# Altium footprint library WR-PHD_Pin Header.PcbLib: 232 footprints (part 10 of 15)
Each footprint in its own frame and in the unit in brackets; x right, y up, seen from the top. Pads: shape width x height; smd on the part's side, far side on the other; paste and mask are expansions set on the pad; w line width, h text height; cw(c..) or ccw(c..) is an arc to the next point about the centre after c.
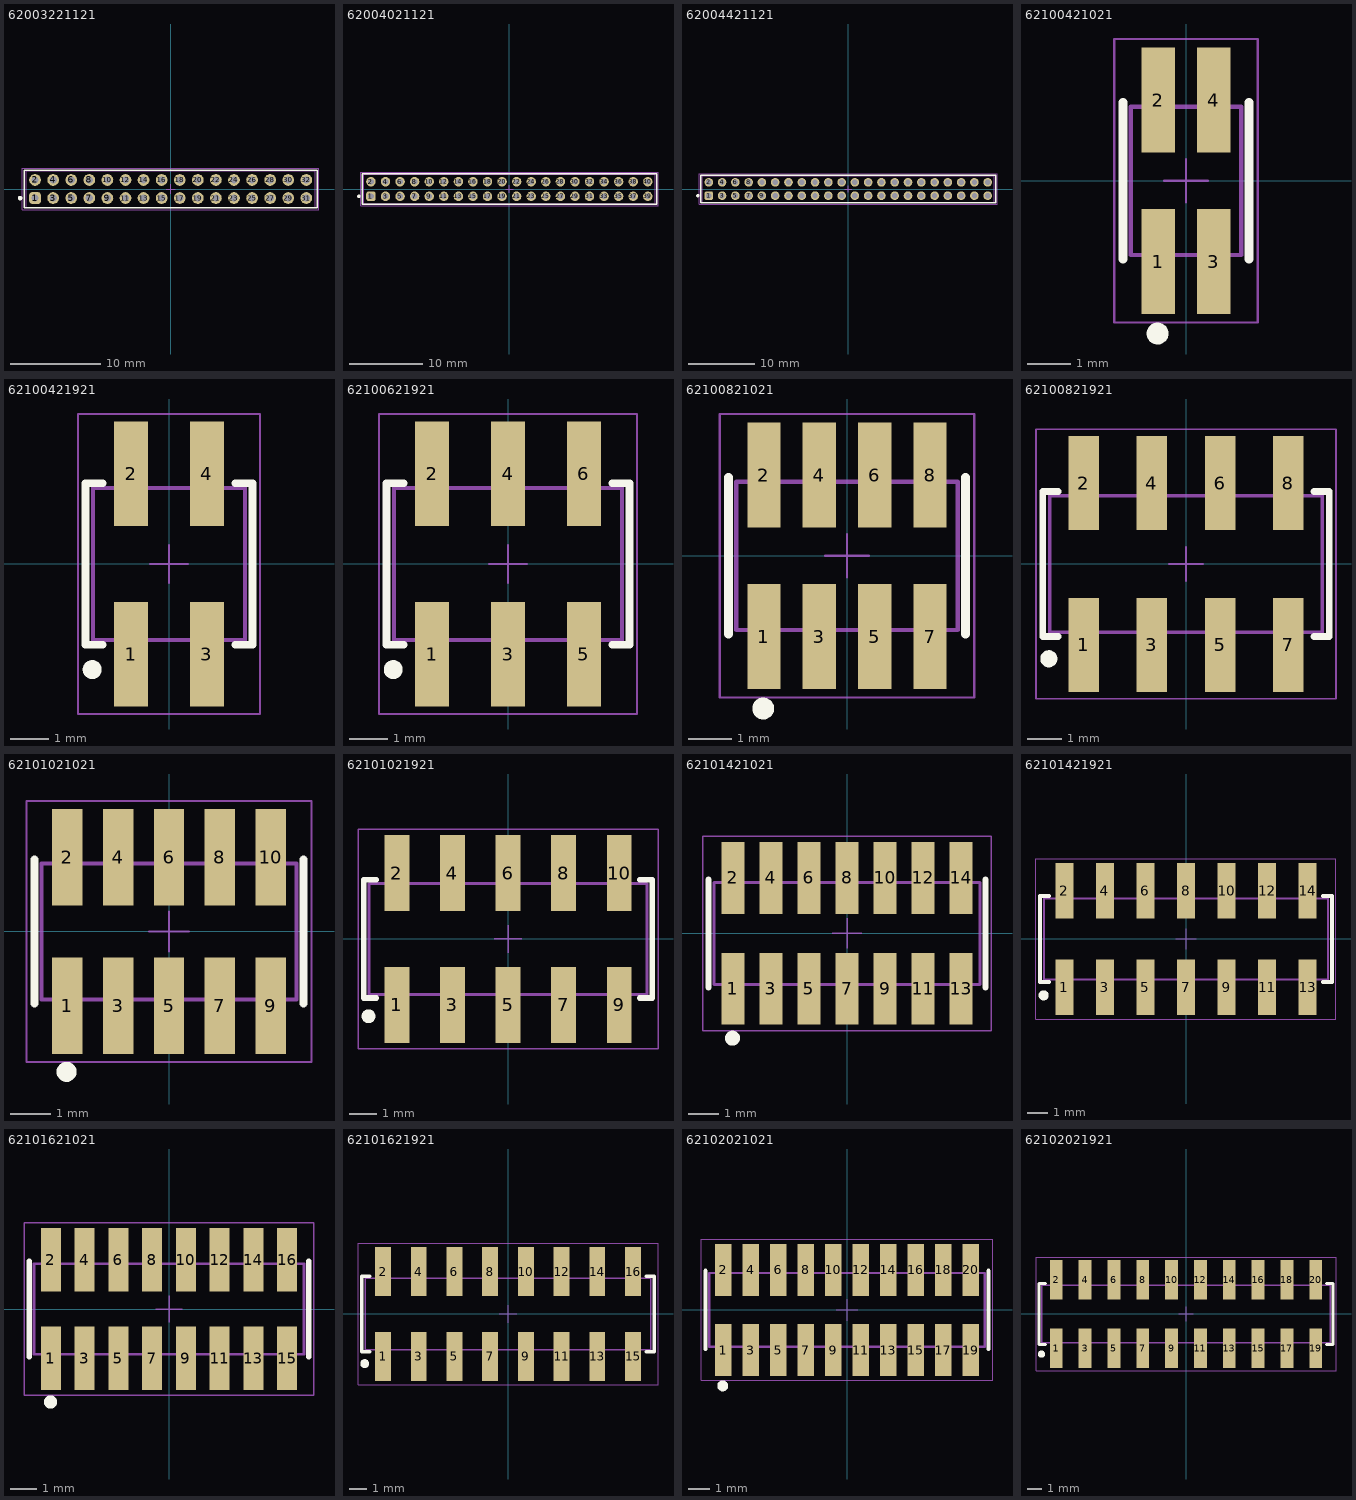
[diagram p9: the footprints below, top view; thin cyan lines are the x and y axes]

## 62003221121 [mm] "2.00 mm THT Dual Pin Header, 32p"
height 6
pads (32):
  rrect50% 1.3x1.3 hole 0.8: 1(-15,-1)
  round 1.3 hole 0.8: 2(-15,1) 3(-13,-1) 4(-13,1) 5(-11,-1) 6(-11,1) 7(-9,-1) 8(-9,1) 9(-7,-1) 10(-7,1) 11(-5,-1) 12(-5,1) 13(-3,-1) 14(-3,1) 15(-1,-1) 16(-1,1) 17(1,-1) 18(1,1) 19(3,-1) 20(3,1) 21(5,-1) 22(5,1) 23(7,-1) 24(7,1) 25(9,-1) 26(9,1) 27(11,-1) 28(11,1) 29(13,-1) 30(13,1) 31(15,-1) 32(15,1)
Top Overlay:
  circle w0.25: c-16.65,-1 r0.125
  lines w0.2: -16.2,-2.075 -16.2,2.075 16.2,2.075 16.2,-2.075 -16.2,-2.075
Top Designator:
  text ".Designator" at -7.498,-0.5 h1.5
Top Component Outline:
  lines w0.1: -16,-2 -16,2 16,2 16,-2 -16,-2
Top Courtyard:
  lines w0.05: -16.4,-2.275 16.4,-2.275 16.4,2.275 -16.4,2.275 -16.4,-2.275
Top Component Center:
  lines w0.05: -0.5,0 0.5,0 ; 0,-0.5 0,0.5
3D body "62003221121.stp": height 6.05, standoff -2.65, extent -16,-2 16,2

## 62004021121 [mm] "2.00 mm THT Dual Pin Header, 40p"
height 6
pads (40):
  rrect50% 1.3x1.3 hole 0.8: 1(-19,-1)
  round 1.3 hole 0.8: 2(-19,1) 3(-17,-1) 4(-17,1) 5(-15,-1) 6(-15,1) 7(-13,-1) 8(-13,1) 9(-11,-1) 10(-11,1) 11(-9,-1) 12(-9,1) 13(-7,-1) 14(-7,1) 15(-5,-1) 16(-5,1) 17(-3,-1) 18(-3,1) 19(-1,-1) 20(-1,1) 21(1,-1) 22(1,1) 23(3,-1) 24(3,1) 25(5,-1) 26(5,1) 27(7,-1) 28(7,1) 29(9,-1) 30(9,1) 31(11,-1) 32(11,1) 33(13,-1) 34(13,1) 35(15,-1) 36(15,1) 37(17,-1) 38(17,1) 39(19,-1) 40(19,1)
Top Overlay:
  circle w0.25: c-20.65,-1 r0.125
  lines w0.2: -20.2,-2.075 20.2,-2.075 20.2,2.075 -20.2,2.075 -20.2,-2.075
Top Designator:
  text ".Designator" at -7.498,-0.5 h1.5
Top Component Outline:
  lines w0.1: -20,-2 20,-2 20,2 -20,2 -20,-2
Top Courtyard:
  lines w0.05: -20.4,-2.275 -20.4,2.275 20.4,2.275 20.4,-2.275 -20.4,-2.275
Top Component Center:
  lines w0.05: -0.5,0 0.5,0 ; 0,-0.5 0,0.5
3D body "62004021121.stp": height 6.05, standoff -2.65, extent -20,-2 20,2

## 62004421121 [mm] "2.00 mm THT Dual Pin Header, 44p"
height 6
pads (44):
  rrect50% 1.3x1.3 hole 0.8: 1(-21,-1)
  round 1.3 hole 0.8: 2(-21,1) 3(-19,-1) 4(-19,1) 5(-17,-1) 6(-17,1) 7(-15,-1) 8(-15,1) 9(-13,-1) 10(-13,1) 11(-11,-1) 12(-11,1) 13(-9,-1) 14(-9,1) 15(-7,-1) 16(-7,1) 17(-5,-1) 18(-5,1) 19(-3,-1) 20(-3,1) 21(-1,-1) 22(-1,1) 23(1,-1) 24(1,1) 25(3,-1) 26(3,1) 27(5,-1) 28(5,1) 29(7,-1) 30(7,1) 31(9,-1) 32(9,1) 33(11,-1) 34(11,1) 35(13,-1) 36(13,1) 37(15,-1) 38(15,1) 39(17,-1) 40(17,1) 41(19,-1) 42(19,1) 43(21,-1) 44(21,1)
Top Overlay:
  circle w0.25: c-22.65,-1 r0.125
  lines w0.2: -22.2,-2.075 -22.2,2.075 22.2,2.075 22.2,-2.075 -22.2,-2.075
Top Designator:
  text ".Designator" at -7.498,-0.5 h1.5
Top Component Outline:
  lines w0.1: -22,-2 -22,2 22,2 22,-2 -22,-2
Top Courtyard:
  lines w0.05: -22.4,-2.275 22.4,-2.275 22.4,2.275 -22.4,2.275 -22.4,-2.275
Top Component Center:
  lines w0.05: -0.5,0 0.5,0 ; 0,-0.5 0,0.5
3D body "62004421121.stp": height 6.05, standoff -2.65, extent -22,-2 22,2

## 62100421021 [mm] "Pin Header, pitch 1.27 mm, SMD, Vertical, dual row, 4p"
height 6.55
pads (4):
  rect 0.76x2.4 smd: 1(-0.635,-1.85) 2(-0.635,1.85) 3(0.635,-1.85) 4(0.635,1.85)
Top Overlay:
  circle w0.25: c-0.65,-3.5 r0.125
  lines w0.2: -1.445,-1.8 -1.445,1.8 ; 1.445,-1.8 1.445,1.8
Top Designator:
  text ".Designator" at -3.499,-0.233 h0.7
Top Component Outline:
  lines w0.1: -0.835,-1.7 -0.835,-2.5 -0.435,-2.5 -0.435,-1.7 ; -0.835,1.7 -0.835,2.5 -0.435,2.5 -0.435,1.7 ; 0.435,-1.7 0.435,-2.5 0.835,-2.5 0.835,-1.7 ; 0.435,1.7 0.435,2.5 0.835,2.5 0.835,1.7 ; -1.27,-1.7 1.27,-1.7 1.27,1.7 -1.27,1.7 -1.27,-1.7
Top Courtyard:
  lines w0.05: -1.645,-3.25 1.645,-3.25 1.645,3.25 -1.645,3.25 -1.645,-3.25
Top Component Center:
  lines w0.05: -0.5,0 0.5,0 ; 0,-0.5 0,0.5
3D body "62100421021.stp": height 5.9, standoff 0, extent -1.27,-2.55 1.27,2.55

## 62100421921 [mm] "Pin Header, pitch 2.00 mm, SMD, Vertical, dual row, 4p"
height 6.8
pads (4):
  rect 0.89x2.75 smd: 1(-1,-2.375) 2(-1,2.375) 3(1,-2.375) 4(1,2.375)
Top Overlay:
  circle w0.25: c-2.022,-2.78 r0.125
  lines w0.2: -1.75,-2.125 -2.2,-2.125 -2.2,2.125 -1.75,2.125 ; 1.75,-2.125 2.2,-2.125 2.2,2.125 1.75,2.125
Top Designator:
  text ".Designator" at -7.498,-0.5 h1.5
Top Component Outline:
  lines w0.1: -1.25,-2 -1.25,-3.1 -0.75,-3.1 -0.75,-2 ; -1.25,2 -1.25,3.1 -0.75,3.1 -0.75,2 ; 0.75,-2 0.75,-3.1 1.25,-3.1 1.25,-2 ; 0.75,2 0.75,3.1 1.25,3.1 1.25,2 ; -2,-2 2,-2 2,2 -2,2 -2,-2
Top Courtyard:
  lines w0.05: -2.4,-3.95 -2.4,3.95 2.4,3.95 2.4,-3.95 -2.4,-3.95
Top Component Center:
  lines w0.05: -0.5,0 0.5,0 ; 0,-0.5 0,0.5
3D body "62100421921.stp": height 6.7, standoff 0, extent -2,-3.1 2,3.1

## 62100621921 [mm] "Pin Header, pitch 2.00 mm, SMD, Vertical, dual row, 6p"
height 6.8
pads (6):
  rect 0.89x2.75 smd: 1(-2,-2.375) 2(-2,2.375) 3(0,-2.375) 4(0,2.375) 5(2,-2.375) 6(2,2.375)
Top Overlay:
  circle w0.25: c-3.022,-2.78 r0.125
  lines w0.2: -2.75,-2.125 -3.2,-2.125 -3.2,2.125 -2.75,2.125 ; 2.75,-2.125 3.2,-2.125 3.2,2.125 2.75,2.125
Top Designator:
  text ".Designator" at -7.498,-0.5 h1.5
Top Component Outline:
  lines w0.1: -2.25,-2 -2.25,-3.1 -1.75,-3.1 -1.75,-2 ; -2.25,2 -2.25,3.1 -1.75,3.1 -1.75,2 ; -0.25,-2 -0.25,-3.1 0.25,-3.1 0.25,-2 ; -0.25,2 -0.25,3.1 0.25,3.1 0.25,2 ; 1.75,-2 1.75,-3.1 2.25,-3.1 2.25,-2 ; 1.75,2 1.75,3.1 2.25,3.1 2.25,2 ; -3,-2 -3,2 3,2 3,-2 -3,-2
Top Courtyard:
  lines w0.05: -3.4,-3.95 3.4,-3.95 3.4,3.95 -3.4,3.95 -3.4,-3.95
Top Component Center:
  lines w0.05: -0.5,0 0.5,0 ; 0,-0.5 0,0.5
3D body "62100621921.stp": height 6.7, standoff 0, extent -3,-3.1 3,3.1

## 62100821021 [mm] "Pin Header, pitch 1.27 mm, SMD, Vertical, dual row, 8p"
height 6.55
pads (8):
  rect 0.76x2.4 smd: 1(-1.905,-1.85) 2(-1.905,1.85) 3(-0.635,-1.85) 4(-0.635,1.85) 5(0.635,-1.85) 6(0.635,1.85) 7(1.905,-1.85) 8(1.905,1.85)
Top Overlay:
  circle w0.25: c-1.92,-3.5 r0.125
  lines w0.2: -2.715,-1.8 -2.715,1.8 ; 2.715,-1.8 2.715,1.8
Top Designator:
  text ".Designator" at -3.499,-0.233 h0.7
Top Component Outline:
  lines w0.1: -2.105,-1.7 -2.105,-2.5 -1.705,-2.5 -1.705,-1.7 ; -2.105,1.7 -2.105,2.5 -1.705,2.5 -1.705,1.7 ; -0.835,-1.7 -0.835,-2.5 -0.435,-2.5 -0.435,-1.7 ; -0.835,1.7 -0.835,2.5 -0.435,2.5 -0.435,1.7 ; 0.435,-1.7 0.435,-2.5 0.835,-2.5 0.835,-1.7 ; 0.435,1.7 0.435,2.5 0.835,2.5 0.835,1.7 ; 1.705,-1.7 1.705,-2.5 2.105,-2.5 2.105,-1.7 ; 1.705,1.7 1.705,2.5 2.105,2.5 2.105,1.7 ; -2.54,-1.7 2.54,-1.7 2.54,1.7 -2.54,1.7 -2.54,-1.7
Top Courtyard:
  lines w0.05: -2.915,-3.25 2.915,-3.25 2.915,3.25 -2.915,3.25 -2.915,-3.25
Top Component Center:
  lines w0.05: -0.5,0 0.5,0 ; 0,-0.5 0,0.5
3D body "62100821021.stp": height 5.9, standoff -0.01, extent -2.54,-2.5 2.54,2.5

## 62100821921 [mm] "Pin Header, pitch 2.00 mm, SMD, Vertical, dual row, 8p"
height 6.8
pads (8):
  rect 0.89x2.75 smd: 1(-3,-2.375) 2(-3,2.375) 3(-1,-2.375) 4(-1,2.375) 5(1,-2.375) 6(1,2.375) 7(3,-2.375) 8(3,2.375)
Top Overlay:
  circle w0.25: c-4.022,-2.78 r0.125
  lines w0.2: -3.75,-2.125 -4.2,-2.125 -4.2,2.125 -3.75,2.125 ; 3.75,-2.125 4.2,-2.125 4.2,2.125 3.75,2.125
Top Designator:
  text ".Designator" at -7.498,-0.5 h1.5
Top Component Outline:
  lines w0.1: -3.25,-2 -3.25,-3.1 -2.75,-3.1 -2.75,-2 ; -3.25,2 -3.25,3.1 -2.75,3.1 -2.75,2 ; -1.25,-2 -1.25,-3.1 -0.75,-3.1 -0.75,-2 ; -1.25,2 -1.25,3.1 -0.75,3.1 -0.75,2 ; 0.75,-2 0.75,-3.1 1.25,-3.1 1.25,-2 ; 0.75,2 0.75,3.1 1.25,3.1 1.25,2 ; 2.75,-2 2.75,-3.1 3.25,-3.1 3.25,-2 ; 2.75,2 2.75,3.1 3.25,3.1 3.25,2 ; -4,-2 -4,2 4,2 4,-2 -4,-2
Top Courtyard:
  lines w0.05: -4.4,-3.95 4.4,-3.95 4.4,3.95 -4.4,3.95 -4.4,-3.95
Top Component Center:
  lines w0.05: -0.5,0 0.5,0 ; 0,-0.5 0,0.5
3D body "62100821921.stp": height 6.7, standoff 0, extent -4,-3.1 4,3.1

## 62101021021 [mm] "Pin Header, pitch 1.27 mm, SMD, Vertical, dual row, 10p"
height 6.55
pads (10):
  rect 0.76x2.4 smd: 1(-2.54,-1.85) 2(-2.54,1.85) 3(-1.27,-1.85) 4(-1.27,1.85) 5(0,-1.85) 6(0,1.85) 7(1.27,-1.85) 8(1.27,1.85) 9(2.54,-1.85) 10(2.54,1.85)
Top Overlay:
  circle w0.25: c-2.555,-3.5 r0.125
  lines w0.2: -3.35,-1.8 -3.35,1.8 ; 3.35,-1.8 3.35,1.8
Top Designator:
  text ".Designator" at -3.499,-0.233 h0.7
Top Component Outline:
  lines w0.1: -2.74,-1.7 -2.74,-2.5 -2.34,-2.5 -2.34,-1.7 ; -2.74,1.7 -2.74,2.5 -2.34,2.5 -2.34,1.7 ; -1.47,-1.7 -1.47,-2.5 -1.07,-2.5 -1.07,-1.7 ; -1.47,1.7 -1.47,2.5 -1.07,2.5 -1.07,1.7 ; -0.2,-1.7 -0.2,-2.5 0.2,-2.5 0.2,-1.7 ; -0.2,1.7 -0.2,2.5 0.2,2.5 0.2,1.7 ; 1.07,-1.7 1.07,-2.5 1.47,-2.5 1.47,-1.7 ; 1.07,1.7 1.07,2.5 1.47,2.5 1.47,1.7 ; 2.34,-1.7 2.34,-2.5 2.74,-2.5 2.74,-1.7 ; 2.34,1.7 2.34,2.5 2.74,2.5 2.74,1.7 ; -3.175,-1.7 3.175,-1.7 3.175,1.7 -3.175,1.7 -3.175,-1.7
Top Courtyard:
  lines w0.05: -3.55,-3.25 3.55,-3.25 3.55,3.25 -3.55,3.25 -3.55,-3.25
Top Component Center:
  lines w0.05: -0.5,0 0.5,0 ; 0,-0.5 0,0.5
3D body "62101021021.stp": height 5.9, standoff -0.01, extent -3.175,-2.5 3.175,2.5

## 62101021921 [mm] "Pin Header, pitch 2.00 mm, SMD, Vertical, dual row, 10p"
height 6.8
pads (10):
  rect 0.89x2.75 smd: 1(-4,-2.375) 2(-4,2.375) 3(-2,-2.375) 4(-2,2.375) 5(0,-2.375) 6(0,2.375) 7(2,-2.375) 8(2,2.375) 9(4,-2.375) 10(4,2.375)
Top Overlay:
  circle w0.25: c-5.022,-2.78 r0.125
  lines w0.2: -4.75,-2.125 -5.2,-2.125 -5.2,2.125 -4.75,2.125 ; 4.75,-2.125 5.2,-2.125 5.2,2.125 4.75,2.125
Top Designator:
  text ".Designator" at -7.498,-0.5 h1.5
Top Component Outline:
  lines w0.1: -4.25,-2 -4.25,-3.1 -3.75,-3.1 -3.75,-2 ; -4.25,2 -4.25,3.1 -3.75,3.1 -3.75,2 ; -2.25,-2 -2.25,-3.1 -1.75,-3.1 -1.75,-2 ; -2.25,2 -2.25,3.1 -1.75,3.1 -1.75,2 ; -0.25,-2 -0.25,-3.1 0.25,-3.1 0.25,-2 ; -0.25,2 -0.25,3.1 0.25,3.1 0.25,2 ; 1.75,-2 1.75,-3.1 2.25,-3.1 2.25,-2 ; 1.75,2 1.75,3.1 2.25,3.1 2.25,2 ; 3.75,-2 3.75,-3.1 4.25,-3.1 4.25,-2 ; 3.75,2 3.75,3.1 4.25,3.1 4.25,2 ; -5,-2 5,-2 5,2 -5,2 -5,-2
Top Courtyard:
  lines w0.05: -5.4,-3.95 -5.4,3.95 5.4,3.95 5.4,-3.95 -5.4,-3.95
Top Component Center:
  lines w0.05: -0.5,0 0.5,0 ; 0,-0.5 0,0.5
3D body "62101021921.stp": height 6.7, standoff 0, extent -5,-3.1 5,3.1

## 62101421021 [mm] "Pin Header, pitch 1.27 mm, SMD, Vertical, dual row, 14p"
height 6.55
pads (14):
  rect 0.76x2.4 smd: 1(-3.81,-1.85) 2(-3.81,1.85) 3(-2.54,-1.85) 4(-2.54,1.85) 5(-1.27,-1.85) 6(-1.27,1.85) 7(0,-1.85) 8(0,1.85) 9(1.27,-1.85) 10(1.27,1.85) 11(2.54,-1.85) 12(2.54,1.85) 13(3.81,-1.85) 14(3.81,1.85)
Top Overlay:
  circle w0.25: c-3.825,-3.5 r0.125
  lines w0.2: -4.62,-1.8 -4.62,1.8 ; 4.62,-1.8 4.62,1.8
Top Designator:
  text ".Designator" at -3.499,-0.233 h0.7
Top Component Outline:
  lines w0.1: -4.01,-1.7 -4.01,-2.5 -3.61,-2.5 -3.61,-1.7 ; -4.01,1.7 -4.01,2.5 -3.61,2.5 -3.61,1.7 ; -2.74,-1.7 -2.74,-2.5 -2.34,-2.5 -2.34,-1.7 ; -2.74,1.7 -2.74,2.5 -2.34,2.5 -2.34,1.7 ; -1.47,-1.7 -1.47,-2.5 -1.07,-2.5 -1.07,-1.7 ; -1.47,1.7 -1.47,2.5 -1.07,2.5 -1.07,1.7 ; -0.2,-1.7 -0.2,-2.5 0.2,-2.5 0.2,-1.7 ; -0.2,1.7 -0.2,2.5 0.2,2.5 0.2,1.7 ; 1.07,-1.7 1.07,-2.5 1.47,-2.5 1.47,-1.7 ; 1.07,1.7 1.07,2.5 1.47,2.5 1.47,1.7 ; 2.34,-1.7 2.34,-2.5 2.74,-2.5 2.74,-1.7 ; 2.34,1.7 2.34,2.5 2.74,2.5 2.74,1.7 ; 3.61,-1.7 3.61,-2.5 4.01,-2.5 4.01,-1.7 ; 3.61,1.7 3.61,2.5 4.01,2.5 4.01,1.7 ; -4.445,-1.7 -4.445,1.7 4.445,1.7 4.445,-1.7 -4.445,-1.7
Top Courtyard:
  lines w0.05: -4.82,-3.25 -4.82,3.25 4.82,3.25 4.82,-3.25 -4.82,-3.25
Top Component Center:
  lines w0.05: -0.5,0 0.5,0 ; 0,-0.5 0,0.5
3D body "62101421021.stp": height 5.9, standoff -0.01, extent -4.445,-2.5 4.445,2.5

## 62101421921 [mm] "Pin Header, pitch 2.00 mm, SMD, Vertical, dual row, 14p"
height 6.8
pads (14):
  rect 0.89x2.75 smd: 1(-6,-2.375) 2(-6,2.375) 3(-4,-2.375) 4(-4,2.375) 5(-2,-2.375) 6(-2,2.375) 7(0,-2.375) 8(0,2.375) 9(2,-2.375) 10(2,2.375) 11(4,-2.375) 12(4,2.375) 13(6,-2.375) 14(6,2.375)
Top Overlay:
  circle w0.25: c-7.022,-2.78 r0.125
  lines w0.2: -6.75,-2.125 -7.2,-2.125 -7.2,2.125 -6.75,2.125 ; 6.75,-2.125 7.2,-2.125 7.2,2.125 6.75,2.125
Top Designator:
  text ".Designator" at -7.498,-0.5 h1.5
Top Component Outline:
  lines w0.1: -6.25,-2 -6.25,-3.1 -5.75,-3.1 -5.75,-2 ; -6.25,2 -6.25,3.1 -5.75,3.1 -5.75,2 ; -4.25,-2 -4.25,-3.1 -3.75,-3.1 -3.75,-2 ; -4.25,2 -4.25,3.1 -3.75,3.1 -3.75,2 ; -2.25,-2 -2.25,-3.1 -1.75,-3.1 -1.75,-2 ; -2.25,2 -2.25,3.1 -1.75,3.1 -1.75,2 ; -0.25,-2 -0.25,-3.1 0.25,-3.1 0.25,-2 ; -0.25,2 -0.25,3.1 0.25,3.1 0.25,2 ; 1.75,-2 1.75,-3.1 2.25,-3.1 2.25,-2 ; 1.75,2 1.75,3.1 2.25,3.1 2.25,2 ; 3.75,-2 3.75,-3.1 4.25,-3.1 4.25,-2 ; 3.75,2 3.75,3.1 4.25,3.1 4.25,2 ; 5.75,-2 5.75,-3.1 6.25,-3.1 6.25,-2 ; 5.75,2 5.75,3.1 6.25,3.1 6.25,2 ; -7,-2 -7,2 7,2 7,-2 -7,-2
Top Courtyard:
  lines w0.05: -7.4,-3.95 7.4,-3.95 7.4,3.95 -7.4,3.95 -7.4,-3.95
Top Component Center:
  lines w0.05: -0.5,0 0.5,0 ; 0,-0.5 0,0.5
3D body "62101421921.stp": height 6.7, standoff 0, extent -7,-3.1 7,3.1

## 62101621021 [mm] "Pin Header, pitch 1.27 mm, SMD, Vertical, dual row, 16p"
height 6.55
pads (16):
  rect 0.76x2.4 smd: 1(-4.445,-1.85) 2(-4.445,1.85) 3(-3.175,-1.85) 4(-3.175,1.85) 5(-1.905,-1.85) 6(-1.905,1.85) 7(-0.635,-1.85) 8(-0.635,1.85) 9(0.635,-1.85) 10(0.635,1.85) 11(1.905,-1.85) 12(1.905,1.85) 13(3.175,-1.85) 14(3.175,1.85) 15(4.445,-1.85) 16(4.445,1.85)
Top Overlay:
  circle w0.25: c-4.46,-3.5 r0.125
  lines w0.2: -5.255,-1.8 -5.255,1.8 ; 5.255,-1.8 5.255,1.8
Top Designator:
  text ".Designator" at -3.499,-0.233 h0.7
Top Component Outline:
  lines w0.1: -4.645,-1.7 -4.645,-2.5 -4.245,-2.5 -4.245,-1.7 ; -4.645,1.7 -4.645,2.5 -4.245,2.5 -4.245,1.7 ; -3.375,-1.7 -3.375,-2.5 -2.975,-2.5 -2.975,-1.7 ; -3.375,1.7 -3.375,2.5 -2.975,2.5 -2.975,1.7 ; -2.105,-1.7 -2.105,-2.5 -1.705,-2.5 -1.705,-1.7 ; -2.105,1.7 -2.105,2.5 -1.705,2.5 -1.705,1.7 ; -0.835,-1.7 -0.835,-2.5 -0.435,-2.5 -0.435,-1.7 ; -0.835,1.7 -0.835,2.5 -0.435,2.5 -0.435,1.7 ; 0.435,-1.7 0.435,-2.5 0.835,-2.5 0.835,-1.7 ; 0.435,1.7 0.435,2.5 0.835,2.5 0.835,1.7 ; 1.705,-1.7 1.705,-2.5 2.105,-2.5 2.105,-1.7 ; 1.705,1.7 1.705,2.5 2.105,2.5 2.105,1.7 ; 2.975,-1.7 2.975,-2.5 3.375,-2.5 3.375,-1.7 ; 2.975,1.7 2.975,2.5 3.375,2.5 3.375,1.7 ; 4.245,-1.7 4.245,-2.5 4.645,-2.5 4.645,-1.7 ; 4.245,1.7 4.245,2.5 4.645,2.5 4.645,1.7 ; -5.08,-1.7 -5.08,1.7 5.08,1.7 5.08,-1.7 -5.08,-1.7
Top Courtyard:
  lines w0.05: -5.455,-3.25 -5.455,3.25 5.455,3.25 5.455,-3.25 -5.455,-3.25
Top Component Center:
  lines w0.05: -0.5,0 0.5,0 ; 0,-0.5 0,0.5
3D body "62101621021.stp": height 5.9, standoff -0.01, extent -5.08,-2.5 5.08,2.5

## 62101621921 [mm] "Pin Header, pitch 2.00 mm, SMD, Vertical, dual row, 16p"
height 6.8
pads (16):
  rect 0.89x2.75 smd: 1(-7,-2.375) 2(-7,2.375) 3(-5,-2.375) 4(-5,2.375) 5(-3,-2.375) 6(-3,2.375) 7(-1,-2.375) 8(-1,2.375) 9(1,-2.375) 10(1,2.375) 11(3,-2.375) 12(3,2.375) 13(5,-2.375) 14(5,2.375) 15(7,-2.375) 16(7,2.375)
Top Overlay:
  circle w0.25: c-8.022,-2.78 r0.125
  lines w0.2: -7.75,-2.125 -8.2,-2.125 -8.2,2.125 -7.75,2.125 ; 7.75,-2.125 8.2,-2.125 8.2,2.125 7.75,2.125
Top Designator:
  text ".Designator" at -7.498,-0.5 h1.5
Top Component Outline:
  lines w0.1: -7.25,-2 -7.25,-3.1 -6.75,-3.1 -6.75,-2 ; -7.25,2 -7.25,3.1 -6.75,3.1 -6.75,2 ; -5.25,-2 -5.25,-3.1 -4.75,-3.1 -4.75,-2 ; -5.25,2 -5.25,3.1 -4.75,3.1 -4.75,2 ; -3.25,-2 -3.25,-3.1 -2.75,-3.1 -2.75,-2 ; -3.25,2 -3.25,3.1 -2.75,3.1 -2.75,2 ; -1.25,-2 -1.25,-3.1 -0.75,-3.1 -0.75,-2 ; -1.25,2 -1.25,3.1 -0.75,3.1 -0.75,2 ; 0.75,-2 0.75,-3.1 1.25,-3.1 1.25,-2 ; 0.75,2 0.75,3.1 1.25,3.1 1.25,2 ; 2.75,-2 2.75,-3.1 3.25,-3.1 3.25,-2 ; 2.75,2 2.75,3.1 3.25,3.1 3.25,2 ; 4.75,-2 4.75,-3.1 5.25,-3.1 5.25,-2 ; 4.75,2 4.75,3.1 5.25,3.1 5.25,2 ; 6.75,-2 6.75,-3.1 7.25,-3.1 7.25,-2 ; 6.75,2 6.75,3.1 7.25,3.1 7.25,2 ; -8,-2 8,-2 8,2 -8,2 -8,-2
Top Courtyard:
  lines w0.05: -8.4,-3.95 -8.4,3.95 8.4,3.95 8.4,-3.95 -8.4,-3.95
Top Component Center:
  lines w0.05: -0.5,0 0.5,0 ; 0,-0.5 0,0.5
3D body "62101621921.stp": height 6.7, standoff 0, extent -8,-3.1 8,3.1

## 62102021021 [mm] "Pin Header, pitch 1.27 mm, SMD, Vertical, dual row, 20p"
height 6.55
pads (20):
  rect 0.76x2.4 smd: 1(-5.715,-1.85) 2(-5.715,1.85) 3(-4.445,-1.85) 4(-4.445,1.85) 5(-3.175,-1.85) 6(-3.175,1.85) 7(-1.905,-1.85) 8(-1.905,1.85) 9(-0.635,-1.85) 10(-0.635,1.85) 11(0.635,-1.85) 12(0.635,1.85) 13(1.905,-1.85) 14(1.905,1.85) 15(3.175,-1.85) 16(3.175,1.85) 17(4.445,-1.85) 18(4.445,1.85) 19(5.715,-1.85) 20(5.715,1.85)
Top Overlay:
  circle w0.25: c-5.73,-3.5 r0.125
  lines w0.2: -6.525,-1.8 -6.525,1.8 ; 6.525,-1.8 6.525,1.8
Top Designator:
  text ".Designator" at -3.499,-0.233 h0.7
Top Component Outline:
  lines w0.1: -5.915,-1.7 -5.915,-2.5 -5.515,-2.5 -5.515,-1.7 ; -5.915,1.7 -5.915,2.5 -5.515,2.5 -5.515,1.7 ; -4.645,-1.7 -4.645,-2.5 -4.245,-2.5 -4.245,-1.7 ; -4.645,1.7 -4.645,2.5 -4.245,2.5 -4.245,1.7 ; -3.375,-1.7 -3.375,-2.5 -2.975,-2.5 -2.975,-1.7 ; -3.375,1.7 -3.375,2.5 -2.975,2.5 -2.975,1.7 ; -2.105,-1.7 -2.105,-2.5 -1.705,-2.5 -1.705,-1.7 ; -2.105,1.7 -2.105,2.5 -1.705,2.5 -1.705,1.7 ; -0.835,-1.7 -0.835,-2.5 -0.435,-2.5 -0.435,-1.7 ; -0.835,1.7 -0.835,2.5 -0.435,2.5 -0.435,1.7 ; 0.435,-1.7 0.435,-2.5 0.835,-2.5 0.835,-1.7 ; 0.435,1.7 0.435,2.5 0.835,2.5 0.835,1.7 ; 1.705,-1.7 1.705,-2.5 2.105,-2.5 2.105,-1.7 ; 1.705,1.7 1.705,2.5 2.105,2.5 2.105,1.7 ; 2.975,-1.7 2.975,-2.5 3.375,-2.5 3.375,-1.7 ; 2.975,1.7 2.975,2.5 3.375,2.5 3.375,1.7 ; 4.245,-1.7 4.245,-2.5 4.645,-2.5 4.645,-1.7 ; 4.245,1.7 4.245,2.5 4.645,2.5 4.645,1.7 ; 5.515,-1.7 5.515,-2.5 5.915,-2.5 5.915,-1.7 ; 5.515,1.7 5.515,2.5 5.915,2.5 5.915,1.7 ; -6.35,-1.7 6.35,-1.7 6.35,1.7 -6.35,1.7 -6.35,-1.7
Top Courtyard:
  lines w0.05: -6.725,-3.25 6.725,-3.25 6.725,3.25 -6.725,3.25 -6.725,-3.25
Top Component Center:
  lines w0.05: -0.5,0 0.5,0 ; 0,-0.5 0,0.5
3D body "62102021021.stp": height 5.9, standoff -0.01, extent -6.35,-2.5 6.35,2.5

## 62102021921 [mm] "Pin Header, pitch 2.00 mm, SMD, Vertical, dual row, 20p"
height 6.8
pads (20):
  rect 0.89x2.75 smd: 1(-9,-2.375) 2(-9,2.375) 3(-7,-2.375) 4(-7,2.375) 5(-5,-2.375) 6(-5,2.375) 7(-3,-2.375) 8(-3,2.375) 9(-1,-2.375) 10(-1,2.375) 11(1,-2.375) 12(1,2.375) 13(3,-2.375) 14(3,2.375) 15(5,-2.375) 16(5,2.375) 17(7,-2.375) 18(7,2.375) 19(9,-2.375) 20(9,2.375)
Top Overlay:
  circle w0.25: c-10.022,-2.78 r0.125
  lines w0.2: -9.75,-2.125 -10.2,-2.125 -10.2,2.125 -9.75,2.125 ; 9.75,-2.125 10.2,-2.125 10.2,2.125 9.75,2.125
Top Designator:
  text ".Designator" at -7.498,-0.5 h1.5
Top Component Outline:
  lines w0.1: -9.25,-2 -9.25,-3.1 -8.75,-3.1 -8.75,-2 ; -9.25,2 -9.25,3.1 -8.75,3.1 -8.75,2 ; -7.25,-2 -7.25,-3.1 -6.75,-3.1 -6.75,-2 ; -7.25,2 -7.25,3.1 -6.75,3.1 -6.75,2 ; -5.25,-2 -5.25,-3.1 -4.75,-3.1 -4.75,-2 ; -5.25,2 -5.25,3.1 -4.75,3.1 -4.75,2 ; -3.25,-2 -3.25,-3.1 -2.75,-3.1 -2.75,-2 ; -3.25,2 -3.25,3.1 -2.75,3.1 -2.75,2 ; -1.25,-2 -1.25,-3.1 -0.75,-3.1 -0.75,-2 ; -1.25,2 -1.25,3.1 -0.75,3.1 -0.75,2 ; 0.75,-2 0.75,-3.1 1.25,-3.1 1.25,-2 ; 0.75,2 0.75,3.1 1.25,3.1 1.25,2 ; 2.75,-2 2.75,-3.1 3.25,-3.1 3.25,-2 ; 2.75,2 2.75,3.1 3.25,3.1 3.25,2 ; 4.75,-2 4.75,-3.1 5.25,-3.1 5.25,-2 ; 4.75,2 4.75,3.1 5.25,3.1 5.25,2 ; 6.75,-2 6.75,-3.1 7.25,-3.1 7.25,-2 ; 6.75,2 6.75,3.1 7.25,3.1 7.25,2 ; 8.75,-2 8.75,-3.1 9.25,-3.1 9.25,-2 ; 8.75,2 8.75,3.1 9.25,3.1 9.25,2 ; -10,-2 -10,2 10,2 10,-2 -10,-2
Top Courtyard:
  lines w0.05: -10.4,-3.95 10.4,-3.95 10.4,3.95 -10.4,3.95 -10.4,-3.95
Top Component Center:
  lines w0.05: -0.5,0 0.5,0 ; 0,-0.5 0,0.5
3D body "62102021921.stp": height 6.7, standoff 0, extent -10,-3.1 10,3.1